# Altium footprint library switches.PcbLib: 16 footprints
Each footprint in its own frame and in the unit in brackets; x right, y up, seen from the top. Pads: shape width x height; smd on the part's side, far side on the other; paste and mask are expansions set on the pad; w line width, h text height; cw(c..) or ccw(c..) is an arc to the next point about the centre after c.
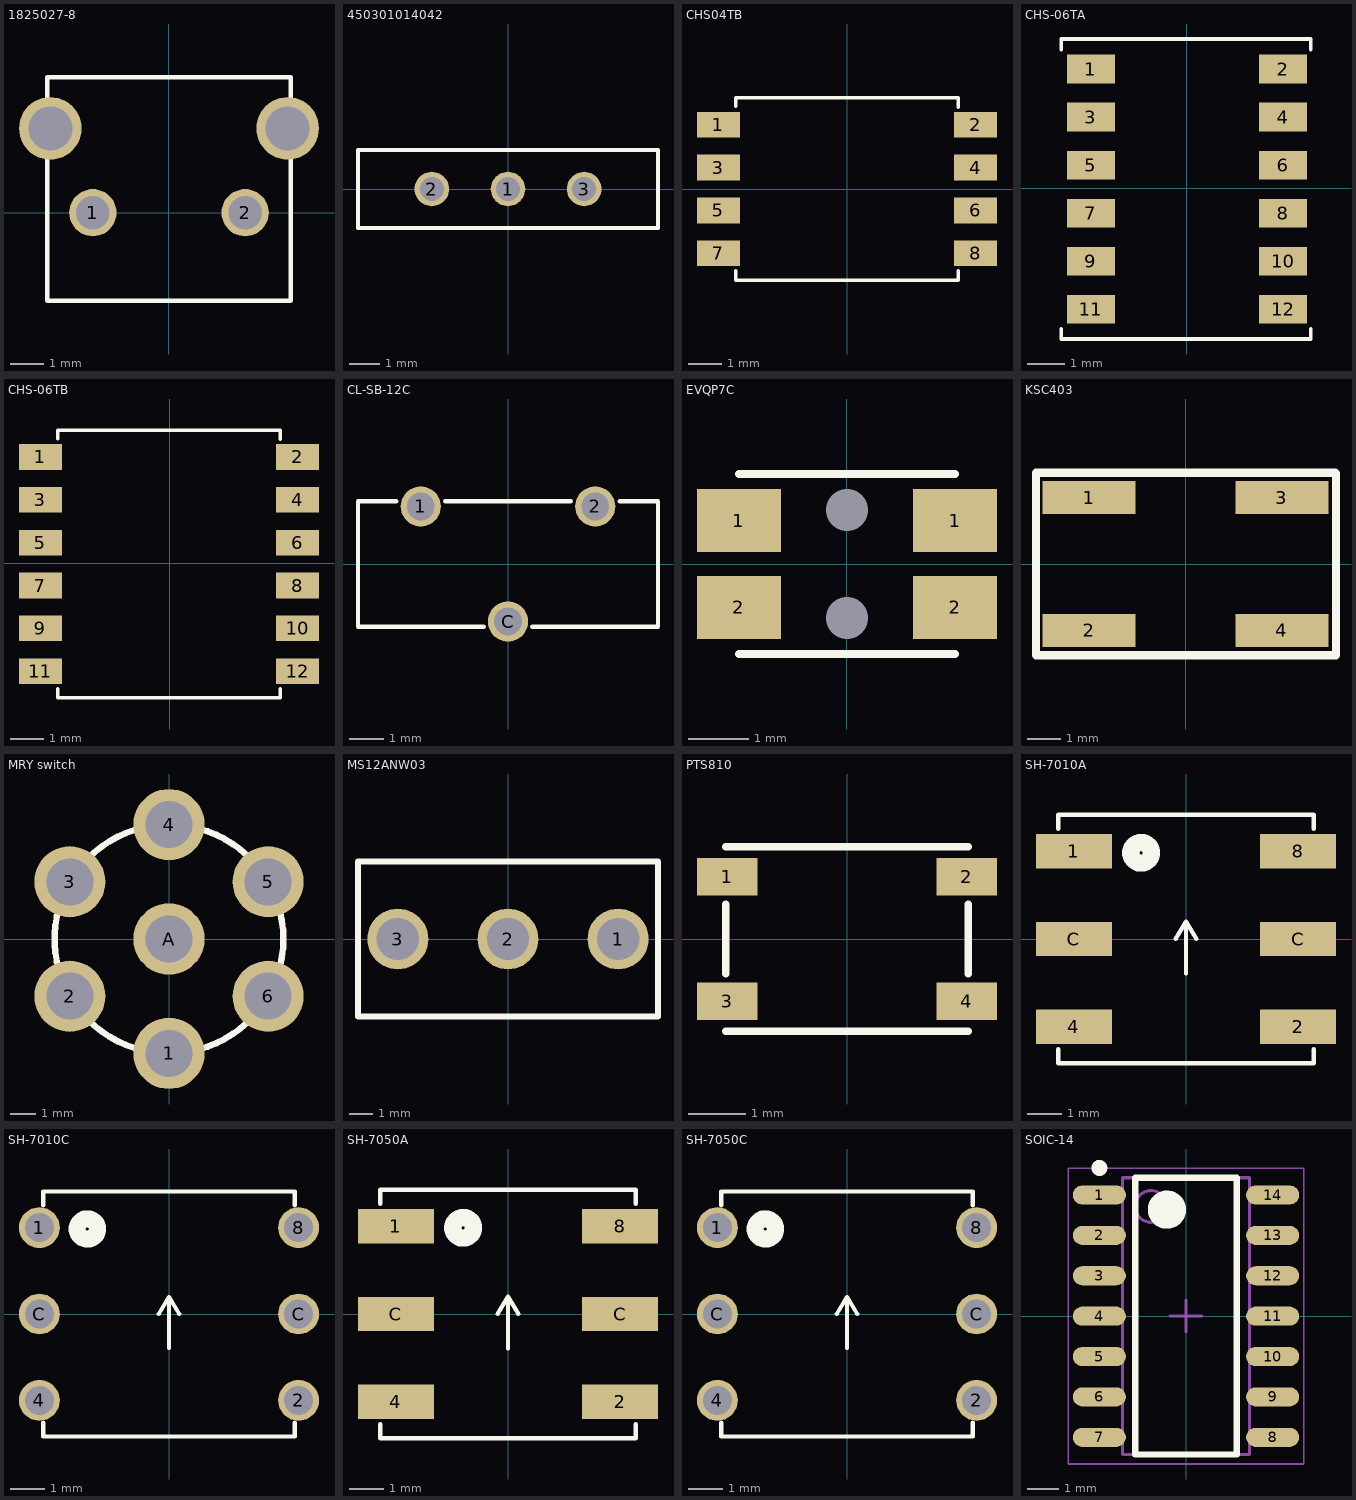
[diagram p0: the footprints below, top view; thin cyan lines are the x and y axes]

## 1825027-8 [mm] "SWITCH TACTILE SPST-NO 0.05A 24V"
pads (4):
  round 1.4 hole 0.99: 1(-2.25,0) 2(2.25,0)
  round 1.85 hole 1.3: ""(-3.505,2.49) ""(3.505,2.49)
Top Overlay:
  lines w0.127: -3.6,-2.6 -3.6,0 -3.6,4 3.6,4 3.6,-2.6 -3.6,-2.6
3D body "c-1825027-8-g1-3d.stp": height 7, standoff -3.52, extent -4.204,-5.851 4.204,3.991

## 450301014042 [mm] "SPDT switch"
pads (3):
  round 1.15 hole 0.8: 1(0,0) 2(-2.54,0) 3(2.54,0)
Top Overlay:
  lines w0.127: -5,-1.3 5,-1.3 5,1.3 -5,1.3 -5,-1.3
3D body "450301014042.stp": height 6.4, standoff -5, extent -5,-1.25 5,1.25

## CHS04TB [mm] "4 POS DIP SWITCH"
pads (8):
  rect 1.27x0.76 smd: 1(-3.81,1.905) 2(3.81,1.905) 3(-3.81,0.635) 4(3.81,0.635) 5(-3.81,-0.635) 6(3.81,-0.635) 7(-3.81,-1.905) 8(3.81,-1.905)
Top Overlay:
  lines w0.1: -3.3,-2.425 -3.3,-2.7 3.3,-2.7 3.3,-2.425 ; -3.3,2.45 -3.3,2.7 3.3,2.7 3.3,2.425
3D body: height 2.5, standoff 2.2, extent -1.5,-1.4 1.5,-1.1
3D body: height 2.5, standoff 2.2, extent -1.5,-0.1 1.5,0.2
3D body: height 2.5, standoff 2.2, extent -1.5,1.15 1.5,1.45
3D body: height 2.5, standoff 2.2, extent -1.5,-2.7 1.5,-2.4
3D body: height 2.5, standoff 2.2, extent -1.5,2.4 1.5,2.7
3D body: height 2.5, standoff 2.2, extent 1.5,-2.7 3.3,2.7
3D body: height 2.5, standoff 2.2, extent -3.3,-2.7 -1.5,2.7
3D body: height 2.3, standoff 2.2, extent -1.2,-2.3 0,-1.5
3D body: height 2.3, standoff 2.2, extent 0,-1 1.2,-0.2
3D body: height 2.3, standoff 2.2, extent -1.2,0.3 0,1.1
3D body: height 2.5, standoff 2.2, extent 0,-2.3 1.2,-1.5
3D body: height 2.5, standoff 2.2, extent -1.2,-1 0,-0.2
3D body: height 2.5, standoff 2.2, extent 0,0.3 1.2,1.1
3D body: height 2.3, standoff 2.2, extent 0,1.5 1.2,2.3
3D body: height 2.5, standoff 2.2, extent -1.2,1.5 0,2.3
3D body: height 2.2, standoff 0, extent -3.3,-2.7 3.3,2.7

## CHS-06TA [mm] "6 POS DIP SWITCH"
pads (12):
  rect 1.27x0.76 smd: 1(-2.54,3.15) 2(2.54,3.15) 3(-2.54,1.88) 4(2.54,1.88) 5(-2.54,0.61) 6(2.54,0.61) 7(-2.54,-0.66) 8(2.54,-0.66) 9(-2.54,-1.93) 10(2.54,-1.93) 11(-2.54,-3.2) 12(2.54,-3.2)
Top Overlay:
  lines w0.1: -3.325,-3.72 -3.325,-3.988 3.275,-3.988 3.275,-3.72 ; -3.325,3.67 -3.325,3.945 3.275,3.945 3.275,3.67
3D body: height 2.5, standoff 2.2, extent -1.525,-2.695 1.475,-2.395
3D body: height 2.5, standoff 2.2, extent -1.525,-3.988 1.475,-3.695
3D body: height 2.3, standoff 2.2, extent -1.225,-3.595 -0.025,-2.795
3D body: height 2.3, standoff 2.2, extent -0.025,-2.295 1.175,-1.495
3D body: height 2.5, standoff 2.2, extent -0.025,-3.595 1.175,-2.795
3D body: height 2.5, standoff 2.2, extent -1.225,-2.295 -0.025,-1.495
3D body: height 2.2, standoff 0, extent -3.325,-3.988 3.275,3.945
3D body: height 2.5, standoff 2.2, extent -1.225,2.745 -0.025,3.545
3D body: height 2.3, standoff 2.2, extent -0.025,2.745 1.175,3.545
3D body: height 2.5, standoff 2.2, extent -0.025,1.545 1.175,2.345
3D body: height 2.5, standoff 2.2, extent -1.225,0.245 -0.025,1.045
3D body: height 2.5, standoff 2.2, extent -0.025,-1.055 1.175,-0.255
3D body: height 2.3, standoff 2.2, extent -1.225,1.545 -0.025,2.345
3D body: height 2.3, standoff 2.2, extent -0.025,0.245 1.175,1.045
3D body: height 2.3, standoff 2.2, extent -1.225,-1.055 -0.025,-0.255
3D body: height 2.5, standoff 2.2, extent -3.325,-3.988 -1.525,3.945
3D body: height 2.5, standoff 2.2, extent 1.475,-3.988 3.275,3.945
3D body: height 2.5, standoff 2.2, extent -1.525,3.645 1.475,3.945
3D body: height 2.5, standoff 2.2, extent -1.525,-1.455 1.475,-1.155
3D body: height 2.5, standoff 2.2, extent -1.525,2.395 1.475,2.695
3D body: height 2.5, standoff 2.2, extent -1.525,1.145 1.475,1.445
3D body: height 2.5, standoff 2.2, extent -1.525,-0.155 1.475,0.145

## CHS-06TB [mil] "6 POS DIP SWITCH"
pads (12):
  rect 50x29.92 smd: 1(-151,124) 2(149,124) 3(-151,74) 4(149,74) 5(-151,24) 6(149,24) 7(-151,-26) 8(149,-26) 9(-151,-76) 10(149,-76) 11(-151,-126) 12(149,-126)
Top Overlay:
  lines w3.94: -130.92,-146.47 -130.92,-157 128.92,-157 128.92,-146.47 ; -130.92,145.46 -130.92,155.3 128.92,155.3 128.92,144.47
3D body: height 98.43, standoff 86.61, extent -60.05,-106.11 58.06,-94.3
3D body: height 98.43, standoff 86.61, extent -60.06,-157 58.06,-145.49
3D body: height 90.55, standoff 86.61, extent -48.24,-141.55 -1,-110.05
3D body: height 90.55, standoff 86.61, extent -0.99,-90.37 46.25,-58.87
3D body: height 98.43, standoff 86.61, extent -0.99,-141.55 46.25,-110.05
3D body: height 98.43, standoff 86.61, extent -48.24,-90.37 -1,-58.87
3D body: height 86.61, standoff 0, extent -130.92,-157 128.92,155.3
3D body: height 98.43, standoff 86.61, extent -48.24,108.06 -1,139.56
3D body: height 90.55, standoff 86.61, extent -1,108.06 46.24,139.56
3D body: height 98.43, standoff 86.61, extent -0.99,60.81 46.25,92.31
3D body: height 98.43, standoff 86.61, extent -48.24,9.63 -1,41.13
3D body: height 98.43, standoff 86.61, extent -0.99,-41.55 46.25,-10.05
3D body: height 90.55, standoff 86.61, extent -48.24,60.81 -1,92.31
3D body: height 90.55, standoff 86.61, extent -0.99,9.63 46.25,41.13
3D body: height 90.55, standoff 86.61, extent -48.24,-41.55 -1,-10.05
3D body: height 98.43, standoff 86.61, extent -130.92,-157 -60.05,155.3
3D body: height 98.43, standoff 86.61, extent 58.06,-157 128.92,155.3
3D body: height 98.43, standoff 86.61, extent -60.06,143.49 58.06,155.3
3D body: height 98.43, standoff 86.61, extent -60.06,-57.3 58.06,-45.49
3D body: height 98.43, standoff 86.61, extent -60.05,94.28 58.06,106.09
3D body: height 98.43, standoff 86.61, extent -60.05,45.07 58.06,56.88
3D body: height 98.43, standoff 86.61, extent -60.05,-6.11 58.06,5.7

## CL-SB-12C [mm] "SPST Slide though hole slide switch"
pads (3):
  round 1.15 hole 0.8: 1(-2.5,1.65) 2(2.5,1.65) C(0,-1.65)
Top Overlay:
  lines w0.127: -3.2,1.8 -4.3,1.8 -4.3,-1.8 -0.7,-1.8 ; -1.8,1.8 1.8,1.8 ; 0.7,-1.8 4.3,-1.8 4.3,1.8 3.2,1.8
3D body: height 3.5, standoff 0, extent -4.3,-1.8 4.3,1.8
3D body: height 5.5, standoff 3.5, extent 0.3,-0.8 2.3,0.8

## EVQP7C [mm] "Panasonic EVQP7 tactile button"
pads (6):
  rect 1.4x1.05 smd: 1(-1.8,0.725) 1(1.8,0.725) 2(-1.8,-0.725) 2(1.8,-0.725)
  round 0 hole 0.7 unplated: ""(0,-0.9) ""(0,0.9)
Top Overlay:
  lines w0.127: -1.8,-1.5 1.8,-1.5 ; -1.8,1.5 1.8,1.5
3D body: height 1.25, standoff 0.1, extent -0.8,-2.2 0.8,-1.5
3D body: height 1.35, standoff 0, extent -1.8,-1.5 1.8,1.5

## KSC403 [mm] "KSC403 Series switch"
pads (4):
  rect 2.8x1 smd: 1(-2.9,2) 2(-2.9,-2) 3(2.9,2) 4(2.9,-2)
Top Overlay:
  lines w0.254: -4.5,-2.75 -4.5,2.75 -3.4,2.75 3.4,2.75 4.5,2.75 4.525,2.725 4.525,-2.75 3.4,-2.75 -3.4,-2.75 -4.5,-2.75
3D body: height 6, standoff 2, extent -1.488,-1.497 1.5,1.497
3D body: height 2, standoff 0, extent -2.725,-2.5 2.75,2.5

## MRY switch [mm]
pads (7):
  round 2.8 hole 1.85: 1(0,-4.5) 2(-3.9,-2.25) 3(-3.9,2.25) 4(0,4.5) 5(3.9,2.25) 6(3.9,-2.25) A(0,0)
Top Overlay:
  circle w0.254: c0,0 r4.5

## MS12ANW03 [mm] "SPDT slide switch"
pads (3):
  round 2.6 hole 1.8 mask-0.127: 1(4.7,0) 2(0,0) 3(-4.7,0)
Top Overlay:
  lines w0.254: -6.4,-3.3 -6.4,3.3 6.4,3.3 6.4,-3.3 -6.4,-3.3
3D body: height 6.4, standoff 0, extent -6.4,-3.3 6.4,3.3
3D body: height 0, standoff -4.8, extent -5.1,-0.4 -4.3,0.4
3D body: height 0, standoff -4.8, extent -0.4,-0.4 0.4,0.4
3D body: height 0, standoff -4.8, extent 4.3,-0.4 5.1,0.4
3D body: height 11.5, standoff 6.4, extent 0.4,-1.9 4.2,1.9

## PTS810 [mm] "C & K PTS 810 Microminiature SMT"
pads (4):
  rect 1.05x0.65 smd: 1(-2.075,1.075) 2(2.075,1.075) 3(-2.075,-1.075) 4(2.075,-1.075)
Top Overlay:
  lines w0.127: -2.1,-1.6 2.1,-1.6 ; -2.1,-0.6 -2.1,0.6 ; -2.1,1.6 2.1,1.6 ; 2.1,-0.6 2.1,0.6
3D body: height 1.6, standoff 0, extent -2.1,-1.6 2.1,1.6
3D body: height 4.1, standoff 1.6, extent -1.5,-1.5 1.5,1.5

## SH-7010A [mm] "Rotary Coded Switch, SH-7000 series, 10 positions, real code, J hook"
pads (6):
  rect 2.2x1 smd: 1(-3.25,2.54) 2(3.25,-2.54) 4(-3.25,-2.54) 8(3.25,2.54) C(-3.25,0) C(3.25,0)
Top Overlay:
  circle w0.5: c-1.3,2.5 r0.3
  lines w0.127: -3.7,-3.2 -3.7,-3.6 3.7,-3.6 3.7,-3.2 ; -3.7,3.2 -3.7,3.6 3.7,3.6 3.7,3.2 ; -0.3,0 0,0.5 ; 0,-1 0,0.5 ; 0.3,0 0,0.5
3D body "SH-7010TA.stp": height 3.77, standoff 0, extent -3.75,-3.65 3.75,3.65

## SH-7010C [mm] "Rotary Coded Switch, SH-7000 series, 10 positions, real code, through hole"
pads (6):
  round 1.2 hole 0.85: 1(-3.81,2.54) 2(3.81,-2.54) 4(-3.81,-2.54) 8(3.81,2.54) C(-3.81,0) C(3.81,0)
Top Overlay:
  circle w0.5: c-2.4,2.5 r0.3
  lines w0.127: -3.7,-3.2 -3.7,-3.6 3.7,-3.6 3.7,-3.2 ; -3.7,3.2 -3.7,3.6 3.7,3.6 3.7,3.2 ; -0.3,0 0,0.5 ; 0,-1 0,0.5 ; 0.3,0 0,0.5
3D body "SH-7010MC.stp": height 3.77, standoff -3.45, extent -3.885,-3.65 3.885,3.65

## SH-7050A [mm] "Rotary Coded Switch, SH-7000 series, 16 positions, real code, J hook"
pads (6):
  rect 2.2x1 smd: 1(-3.25,2.54) 2(3.25,-2.54) 4(-3.25,-2.54) 8(3.25,2.54) C(-3.25,0) C(3.25,0)
Top Overlay:
  circle w0.5: c-1.3,2.5 r0.3
  lines w0.127: -3.7,-3.2 -3.7,-3.6 3.7,-3.6 3.7,-3.2 ; -3.7,3.2 -3.7,3.6 3.7,3.6 3.7,3.2 ; -0.3,0 0,0.5 ; 0,-1 0,0.5 ; 0.3,0 0,0.5
3D body "SH-7050TA.stp": height 3.77, standoff 0, extent -3.75,-3.65 3.75,3.65

## SH-7050C [mm] "Rotary Coded Switch, SH-7000 series, 16 positions, real code, through hole"
pads (6):
  round 1.2 hole 0.85: 1(-3.81,2.54) 2(3.81,-2.54) 4(-3.81,-2.54) 8(3.81,2.54) C(-3.81,0) C(3.81,0)
Top Overlay:
  circle w0.5: c-2.4,2.5 r0.3
  lines w0.127: -3.7,-3.2 -3.7,-3.6 3.7,-3.6 3.7,-3.2 ; -3.7,3.2 -3.7,3.6 3.7,3.6 3.7,3.2 ; -0.3,0 0,0.5 ; 0,-1 0,0.5 ; 0.3,0 0,0.5
3D body "SH-7050MC.stp": height 3.77, standoff -3.45, extent -3.885,-3.65 3.885,3.65

## SOIC-14 [mm] "SOIC, 14-Leads, Body 8.65x3.90mm, Pitch 1.27mm, IPC Medium Density"
height 1.73
pads (14):
  oval 1.67x0.6 smd: 1(-2.725,3.81) 2(-2.725,2.54) 3(-2.725,1.27) 4(-2.725,0) 5(-2.725,-1.27) 6(-2.725,-2.54) 7(-2.725,-3.81) 8(2.725,-3.81) 9(2.725,-2.54) 10(2.725,-1.27) 11(2.725,0) 12(2.725,1.27) 13(2.725,2.54) 14(2.725,3.81)
Top Overlay:
  circle w0.25: c-2.725,4.66 r0.125
  circle w0.6: c-0.6,3.35 r0.3
  lines w0.2: -1.6,-4.35 -1.6,4.35 1.6,4.35 1.6,-4.35 -1.6,-4.35
Mechanical 13:
  circle w0.1: c-1.1,3.45 r0.5
  lines w0.1: -2,-4.35 -2,4.35 2,4.35 2,-4.35 -2,-4.35
Mechanical 15:
  lines w0.05: -3.7,-4.65 -3.7,4.65 3.7,4.65 3.7,-4.65 -3.7,-4.65
  lines w0.1: -0.5,0 0.5,0 ; 0,-0.5 0,0.5
3D body: height 1.73, standoff 0.1, extent -2,-4.35 2,4.35